# Altium schematic symbol library 10103592-0001LF.SchLib: 1 symbol
Pins are listed as number, name and electrical type; pins without a type are passive.

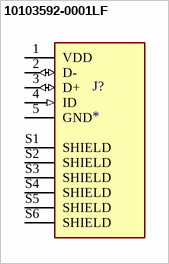
[diagram p0: symbol 10103592-0001LF]

## 10103592-0001LF
designator J?
Micro USB 2.0, Input Output Connectors, B TYPE REVERSE; MF: Amphenol ICC; MP: 10103592-0001LF; Check_prices: https://www.snapeda.com/parts/10103592-0001LF/Amphenol+FCI/view-part/?ref=eda; Digi-Key_Part_Number: 609-4048-2-ND; Value: *; SnapEDA_Link: https://www.snapeda.com/parts/10103592-0001LF/Amphenol+FCI/view-part/?ref=snap; Package: None; Purchase-URL: https://pricing.snapeda.com/search/part/10103592-0001LF/?ref=eda
footprint AMPHENOL_10103592-0001LF
pins: 1 VDD (power), 2 D- (io), 3 D+ (io), 4 ID (in), 5 GND (power), S1 SHIELD (power), S2 SHIELD (power), S3 SHIELD (power), S4 SHIELD (power), S5 SHIELD (power), S6 SHIELD (power)